# Altium schematic symbol library Schlib_SHERPA.SchLib: 11 symbols
Pins are listed as number, name and electrical type; pins without a type are passive.

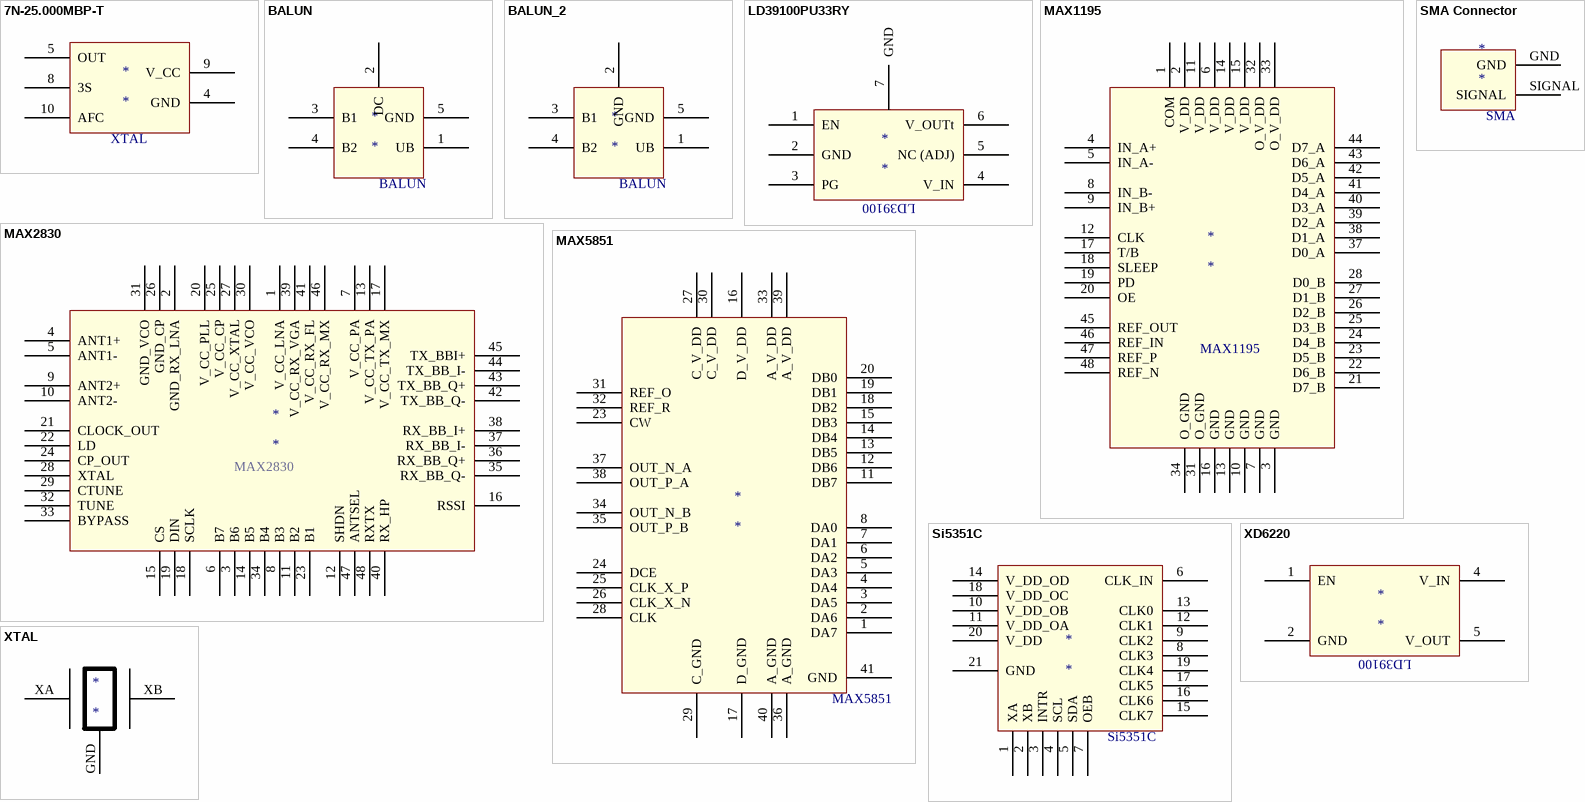
[diagram p0: symbols 7N-25.000MBP-T to XTAL]

## 7N-25.000MBP-T
designator *
footprint 7N-25.000MBP-T
pins: 4 GND, 5 OUT, 8 3S, 9 V_CC, 10 AFC
text: XTAL

## BALUN
designator *
footprint BALUN
pins: 1 UB, 2 DC, 3 B1, 4 B2, 5 GND

## BALUN_2
designator *
footprint BALUN2
pins: 1 UB, 2 GND, 3 B1, 4 B2, 5 GND
text: BALUN

## LD39100PU33RY
designator *
footprint LD39100PU33RY (QFN, 6-Leads, Body 3.00x3.00mm, Pitch 0.95mm, Thermal Pad 2.37x1.63mm, IPC Medium Density)
pins: 1 EN, 2 GND, 3 PG, 4 V_IN, 5 NC (ADJ), 6 V_OUTt, 7 GND
text: LD39100

## MAX1195
designator *
footprint MAX1195 (TSQFP, 48-Leads, Body 7.00x7.00mm, Pitch 0.50mm, IPC Medium Density)
pins: 1 COM, 2 V_DD, 3 GND, 4 IN_A+, 5 IN_A-, 6 V_DD, 7 GND, 8 IN_B-, 9 IN_B+, 10 GND, 11 V_DD, 12 CLK, 13 GND, 14 V_DD, 15 V_DD, 16 GND, 17 T/B, 18 SLEEP, 19 PD, 20 OE, 21 D7_B, 22 D6_B, 23 D5_B, 24 D4_B, 25 D3_B, 26 D2_B, 27 D1_B, 28 D0_B, 31 O_GND, 32 O_V_DD, 33 O_V_DD, 34 O_GND, 37 D0_A, 38 D1_A, 39 D2_A, 40 D3_A, 41 D4_A, 42 D5_A, 43 D6_A, 44 D7_A, 45 REF_OUT, 46 REF_IN, 47 REF_P, 48 REF_N

## MAX2830
designator *
footprint MAX2830
pins: 1 V_CC_LNA, 2 GND_RX_LNA, 3 B6, 4 ANT1+, 5 ANT1-, 6 B7, 7 V_CC_PA, 8 B3, 9 ANT2+, 10 ANT2-, 11 B2, 12 SHDN, 13 V_CC_TX_PA, 14 B5, 15 CS, 16 RSSI, 17 V_CC_TX_MX, 18 SCLK, 19 DIN, 20 V_CC_PLL, 21 CLOCK_OUT, 22 LD, 23 B1, 24 CP_OUT, 25 V_CC_CP, 26 GND_CP, 27 V_CC_XTAL, 28 XTAL, 29 CTUNE, 30 V_CC_VCO, 31 GND_VCO, 32 TUNE, 33 BYPASS, 34 B4, 35 RX_BB_Q-, 36 RX_BB_Q+, 37 RX_BB_I-, 38 RX_BB_I+, 39 V_CC_RX_VGA, 40 RX_HP, 41 V_CC_RX_FL, 42 TX_BB_Q-, 43 TX_BB_Q+, 44 TX_BB_I-, 45 TX_BBI+, 46 V_CC_RX_MX, 47 ANTSEL, 48 RXTX

## MAX5851
designator *
footprint MAX5851
pins: 1 DA7, 2 DA6, 3 DA5, 4 DA4, 5 DA3, 6 DA2, 7 DA1, 8 DA0, 11 DB7, 12 DB6, 13 DB5, 14 DB4, 15 DB3, 16 D_V_DD, 17 D_GND, 18 DB2, 19 DB1, 20 DB0, 23 CW, 24 DCE, 25 CLK_X_P, 26 CLK_X_N, 27 C_V_DD, 28 CLK, 29 C_GND, 30 C_V_DD, 31 REF_O, 32 REF_R, 33 A_V_DD, 34 OUT_N_B, 35 OUT_P_B, 36 A_GND, 37 OUT_N_A, 38 OUT_P_A, 39 A_V_DD, 40 A_GND, 41 GND

## Si5351C
designator *
footprint Si5351C
pins: 1 XA, 2 XB, 3 INTR, 4 SCL, 5 SDA, 6 CLK_IN, 7 OEB, 8 CLK3, 9 CLK2, 10 V_DD_OB, 11 V_DD_OA, 12 CLK1, 13 CLK0, 14 V_DD_OD, 15 CLK7, 16 CLK6, 17 CLK5, 18 V_DD_OC, 19 CLK4, 20 V_DD, 21 GND

## SMA Connector
designator *
footprint SMA Connector
pins: GND, SIGNAL
text: SMA

## XD6220
designator *
footprint XC 6220 (SOT89, 3-Leads, Body 4.50x2.50mm, Pitch 1.50mm, Lead Span 3.3mm, IPC Medium Density)
pins: 1 EN, 2 GND, 4 V_IN, 5 V_OUT
text: LD39100

## XTAL
designator *
footprint XTAL
pins: GND, XA, XB